# Altium schematic symbol library diode_8.Schlib: 1 symbol
Pins are listed as number, name and electrical type; pins without a type are passive.

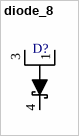
[diagram p0: symbol diode_8]

## diode_8
designator D?  (value not drawn)
Schottky, Dual Anode
pins: 1, 3, 4